# Altium schematic symbol library POWER_2.SchLib: 7 symbols
Pins are listed as number, name and electrical type; pins without a type are passive.

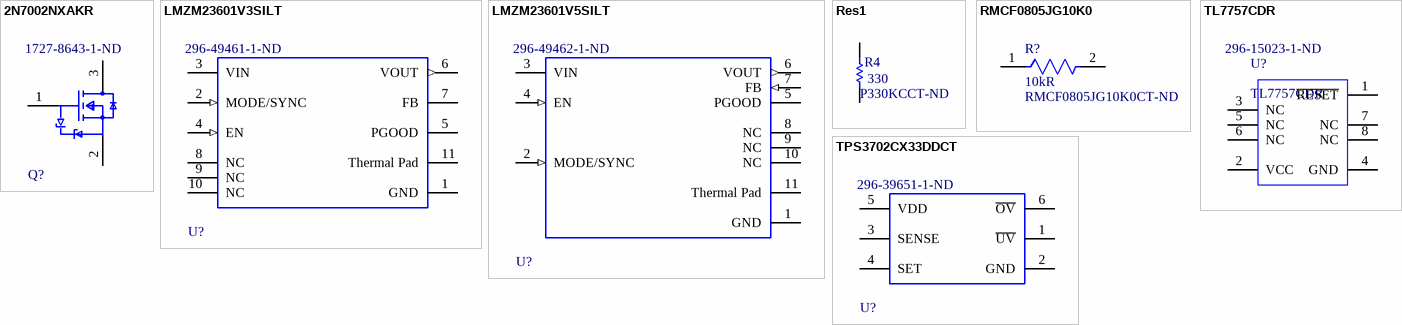
[diagram p0: symbols 2N7002NXAKR to TPS3702CX33DDCT]

## 2N7002NXAKR
designator Q?  Supplier Part Number 1: 1727-8643-1-ND  (hidden comment: *)
2N7002NXAK - 60 V, single N-channel Trench MOSFET; Manufacturer: Nexperia; Manufacturer Part Number: 2N7002NXAKR; Supplier 1: Digi-Key; RoHS: No; Stock 1: 74376; Pricing 1: 1=0.10000, 10=0.05600, 25=0.05360, 100=0.03030, 500=0.02380, 1000=0.01653 (USD)
footprint Nexperia_USA_Inc_SOT23_IPC_B
pins: 1 G, 2 S, 3 D

## LMZM23601V3SILT
designator U?  Supplier Part Number 1: 296-49461-1-ND  (hidden comment: *)
TEXAS INSTRUMENTS - LMZM23601V3SILT . - Convertidor DC/DC POL no Aislado, ITE, 1 Salida, 3 W, 3 V, 1 A, Fijo; Number of Outputs: 1; Min Input Voltage: 4V; Max Input Voltage: 36V; Voltage - Output 1: 3.3V; Max Output Current: 1A; Efficiency: 81%; Supplier 1: Digi-Key; Manufacturer: Texas Instruments; Manufacturer Part Number: LMZM23601V3SILT; RoHS: Yes; Category: Voltage Regulators - Switching; Stock 1: 689; Pricing 1: 1=6.54000, 10=5.87300, 25=5.55240, 100=4.56520 (USD); Mount: Surface Mount; Min Operating Temperature: -40°C; Max Operating Temperature: 125°C; Features: UVLO,OCP,SCP; Packaging: Cut Tape; RoHS Compliant: Yes; ComponentLink1URL: http://www.ti.com/lit/ds/symlink/lmzm23601.pdf?src-supplier=Digi-Key; ComponentLink1Description: http://www.ti.com/lit/ds/symlink/lmzm23601.pdf?src-supplier=Digi-Key; ComponentLink2URL: http://www.ti.com/lit/ds/symlink/lmzm23601.pdf?src-supplier=Farnell; ComponentLink2Description: http://www.ti.com/lit/ds/symlink/lmzm23601.pdf?src-supplier=Farnell
footprint Texas_Instruments_SIL0010A_MFG
pins: 1 GND (power), 2 MODE/SYNC (in), 3 VIN (power), 4 EN (in), 5 PGOOD (oc), 6 VOUT (out), 7 FB, 8 NC, 9 NC, 10 NC, 11 Thermal Pad (power)

## LMZM23601V5SILT
designator U?  Supplier Part Number 1: 296-49462-1-ND  (hidden comment: *)
TEXAS INSTRUMENTS - LMZM23601V5SILT - Non Isolated POL DC/DC Converter, 1 Output, 5 W, 5 V, 1 A, Fixed; Number of Outputs: 1; Min Input Voltage: 4V; Max Input Voltage: 36V; Voltage - Output 1: 5V; Max Output Current: 1A; Efficiency: 87%; Supplier 1: Digi-Key; Manufacturer: Texas Instruments; Manufacturer Part Number: LMZM23601V5SILT; RoHS: Yes; Category: Voltage Regulators - Switching; Stock 1: 2317; Pricing 1: 1=6.54000, 10=5.87300, 25=5.55240, 100=4.56520 (USD); Mount: Surface Mount; Min Operating Temperature: -40°C; Max Operating Temperature: 125°C; Features: UVLO,OCP,SCP; Packaging: Tape and Reel; ComponentLink1URL: http://www.ti.com/lit/ds/symlink/lmzm23601.pdf?src-supplier=Farnell; ComponentLink1Description: http://www.ti.com/lit/ds/symlink/lmzm23601.pdf?src-supplier=Farnell; ComponentLink2URL: http://www.ti.com/lit/ds/symlink/lmzm23601.pdf?src-supplier=Digi-Key; ComponentLink2Description: http://www.ti.com/lit/ds/symlink/lmzm23601.pdf?src-supplier=Digi-Key
footprint Texas_Instruments_SIL0010A_MFG
pins: 1 GND (power), 2 MODE/SYNC (in), 3 VIN (power), 4 EN (in), 5 PGOOD (oc), 6 VOUT (out), 7 FB (in), 8 NC, 9 NC, 10 NC, 11 Thermal Pad (power)

## Res1
designator R4  value 330  Supplier Part Number 1: P330KCCT-ND  (hidden comment: Res1)
SMD Chip Resistor, 0805 [2012 Metric], 330 kohm, ERJ6EN Series, 150 V, Thick Film, 125 mW; Manufacturer: Panasonic; Manufacturer Part Number: ERJ6ENF3303V; Resistance: 330kR; Power Rating: 125mW; Tolerance: 1%; Temperature Coefficient: 100ppm/°C; Voltage Rating: 150V; Published: 8-Jun-2000; LatestRevisionDate: 17-Jul-2002; LatestRevisionNote: Re-released for DXP Platform.; PackageReference: AXIAL-0.3; Publisher: Altium Limited; PackageDescription: Axial Device, Thru-Hole; 2 Leads; 0.3 in Pin Spacing; Supplier 1: Digi-Key; RoHS: Yes; Category: Chip SMD Resistors; Stock 1: 9622; Pricing 1: 1=0.10000, 10=0.07200, 100=0.02750, 1000=0.01210, 2500=0.01045 (USD); Mount: Surface Mount; Case/Package: 0805; Number of Pins: 2; Case Code (Metric): 2012; Case Code (Imperial): 0805; Contact Plating: Tin; Min Operating Temperature: -55°C; Max Operating Temperature: 155°C; Packaging: Tape and Reel; Resistor Type: Thick Film; Number of Terminations: 2; Max Power Dissipation: 125mW; Series: ERJ; Termination: SMD/SMT; Construction: Rectangular; Package Quantity: 1; Features: Automotive AEC-Q200; Resistance Tolerance: 1%; Technology: THICK FILM; Length: 2mm; Width: 0.049inch; Height: 0.6mm; Depth: 1.25mm; Radiation Hardening: No; RoHS Compliant: Yes; Military Standard: Not; REACH SVHC: No SVHC; ComponentLink1URL: https://datasheet.ciiva.com/11821/0900766b80f80784-11821637.pdf?src-supplier=RSComponents; ComponentLink1Description: https://datasheet.ciiva.com/11821/0900766b80f80784-11821637.pdf?src-supplier=RSComponents; ComponentLink2URL: https://datasheet.ciiva.com/9183/aoa0000ce2-9183029.pdf?src-supplier=Avnet; ComponentLink2Description: https://datasheet.ciiva.com/9183/aoa0000ce2-9183029.pdf?src-supplier=Avnet; ComponentLink3URL: https://datasheet.ciiva.com/24026/aoa0000ce2-24026247.pdf?src-supplier=Mouser; ComponentLink3Description: https://datasheet.ciiva.com/24026/aoa0000ce2-24026247.pdf?src-supplier=Mouser; ComponentLink4URL: https://datasheet.ciiva.com/46420/1678782-46420183.pdf?src-supplier=Element14; ComponentLink4Description: https://datasheet.ciiva.com/46420/1678782-46420183.pdf?src-supplier=Element14; ComponentLink5URL: https://datasheet.ciiva.com/7836/426256-7836824.pdf?src-supplier=Element14; ComponentLink5Description: https://datasheet.ciiva.com/7836/426256-7836824.pdf?src-supplier=Element14; ComponentLink6URL: https://datasheet.ciiva.com/17206/aoa0000ce2-17206265.pdf?src-supplier=Avnet+Europe; ComponentLink6Description: https://datasheet.ciiva.com/17206/aoa0000ce2-17206265.pdf?src-supplier=Avnet+Europe; ComponentLink7URL: https://datasheet.ciiva.com/16761/70260748-16761642.pdf?src-supplier=Allied+Electronics; ComponentLink7Description: https://datasheet.ciiva.com/16761/70260748-16761642.pdf?src-supplier=Allied+Electronics; ComponentLink8URL: https://datasheet.ciiva.com/7836/426256-7836539.pdf?src-supplier=Element14; ComponentLink8Description: https://datasheet.ciiva.com/7836/426256-7836539.pdf?src-supplier=Element14; ComponentLink9URL: https://datasheet.ciiva.com/5915/426256-5915341.pdf?src-supplier=Farnell; ComponentLink9Description: https://datasheet.ciiva.com/5915/426256-5915341.pdf?src-supplier=Farnell; ComponentLink10URL: https://datasheet.ciiva.com/16765/70260748-16765294.pdf?src-supplier=Allied+Electronics; ComponentLink10Description: https://datasheet.ciiva.com/16765/70260748-16765294.pdf?src-supplier=Allied+Electronics; ComponentLink11URL: https://datasheet.ciiva.com/22673/1678782-22673294.pdf?src-supplier=Element14; ComponentLink11Description: https://datasheet.ciiva.com/22673/1678782-22673294.pdf?src-supplier=Element14; ComponentLink12URL: https://datasheet.ciiva.com/22687/1678782-22687438.pdf?src-supplier=Element14; ComponentLink12Description: https://datasheet.ciiva.com/22687/1678782-22687438.pdf?src-supplier=Element14
simulation model RESISTOR (Resistor)
signal-integrity model Res
footprint 6-0805_M (Chip Resistor, Body 2.0x1.2mm, IPC Low Density)
pins: 1, 2

## RMCF0805JG10K0
designator R?  Resistance: 10kR  Supplier Part Number 1: RMCF0805JG10K0CT-ND  (hidden comment: *)
Res Thick Film 0805 10K Ohm 5% 1/8W ±200ppm/°C Molded SMD Paper T/R; Manufacturer: Stackpole Electronics; Manufacturer Part Number: RMCF0805JG10K0; Max Power Dissipation: 125mW; Supplier 1: Digi-Key; RoHS: Yes; Category: Chip SMD Resistors; Stock 1: 126198; Pricing 1: 1=0.10000, 10=0.01900, 100=0.00780, 1000=0.00350, 2500=0.00304, 5000=0.00251 (USD); Mount: Surface Mount; Case/Package: 0805; Case Code (Metric): 2012; Case Code (Imperial): 0805; Contact Plating: Tin,Matte; Min Operating Temperature: -55°C; Max Operating Temperature: 155°C; Packaging: Tape and Reel; Tolerance: 5%; Resistor Type: Thick Film; Number of Terminations: 2; Package Quantity: 10000; Temperature Coefficient: 200ppm/°C; Features: Automotive AEC-Q200; Series: RMCF; Length: 0.079inch; Width: 0.049inch; Height: 0.026inch; Radiation Hardening: No; RoHS Compliant: Yes; ComponentLink1URL: https://www.seielect.com/catalog/SEI-Packaging.pdf?src-supplier=Digi-Key; ComponentLink1Description: https://www.seielect.com/catalog/SEI-Packaging.pdf?src-supplier=Digi-Key; ComponentLink2URL: https://www.seielect.com/Catalog/SEI-RMCF_RMCP.pdf?src-supplier=Digi-Key; ComponentLink2Description: https://www.seielect.com/Catalog/SEI-RMCF_RMCP.pdf?src-supplier=Digi-Key; ComponentLink3URL: http://www.seielect.com/Catalog/SEI-RMCF_RMCP.pdf?src-supplier=Digi-Key; ComponentLink3Description: http://www.seielect.com/Catalog/SEI-RMCF_RMCP.pdf?src-supplier=Digi-Key; ComponentLink4URL: https://www.seielect.com/catalog/SEI-RMCF_RMCP.pdf?src-supplier=Avnet; ComponentLink4Description: https://www.seielect.com/catalog/SEI-RMCF_RMCP.pdf?src-supplier=Avnet; ComponentLink5URL: http://components.arrow.com/part/dataview/40965385S7746077N1174?src-supplier=Arrow+Electronics; ComponentLink5Description: http://components.arrow.com/part/dataview/40965385S7746077N1174?src-supplier=Arrow+Electronics
footprint Model Name (Footprint not found)
footprint 0805
pins: 1, 2

## TL7757CDR
designator U?  Supplier Part Number 1: 296-15023-1-ND
IC SUPPLY-VOLT SUPERVISOR 8-SOIC; Manufacturer: Texas Instruments; # of supplies monitored: 1; VCC(Max)(V): 7; Rating: Military; Iq(Typ)(uA): 1400; Threshold Voltage 1 (typ)(Typ)(V): 4.55; Reset Threshold Accuracy(%): 2.6; Output Driver Type / Reset Output: Active-low, Open-drain; SubFamily: Supervisor and Reset IC; Max Supply Voltage: 7V; Min Supply Voltage: 1V; Reset: Active Low; Reset Timeout: 5us; Threshold Voltage: 4.55V; Operating Supply Current: 1.4mA; Max Supply Current: 2mA; Watchdog Timer: No; Overvoltage Threshold: 4.67V; Min Reset Threshold Voltage: 4.43V; PackageVersion: revM, Jun-2011; ComponentLink1Description: Datasheet; DatasheetVersion: SLVS041I; PackageReference: D8; ComponentLink1URL: http://www.ti.com/general/docs/lit/getliterature.tsp?genericPartNumber=TL7757&fileType=pdf; Code_JEDEC: MS-012AA; VCC(Min)(V): 1; Mounting Technology: Surface Mount; PackageDescription: 8-Pin Plastic Small Outline Integrated Circuit, 4.9 x 3.9 mm, Pitch 1.27 mm Pitch; PartNumber: TL7757CDR; Supplier 1: Digi-Key; Manufacturer Part Number: TL7757CDR; RoHS: Yes; Category: Voltage Supervisors; Stock 1: 869; Pricing 1: 1=0.74000, 10=0.65400, 25=0.61440, 100=0.46580, 250=0.39644, 500=0.37662, 1000=0.28742 (USD); Case/Package: D; Number of Pins: 8; Min Operating Temperature: -40°C; Max Operating Temperature: 85°C; Packaging: Tape and Reel; Package Quantity: 2500; Number of Voltages Monitored: 1; Undervoltage Threshold: 4.55V; Quiescent Current: 1.4mA; Max Reset Threshold Voltage: 4.67V; Radiation Hardening: No; Lead Free: Lead Free; RoHS Compliant: Yes; ComponentLink2URL: https://datasheet.ciiva.com/26884/tl7757cdr-26884959.pdf?src-supplier=IIIC; ComponentLink2Description: https://datasheet.ciiva.com/26884/tl7757cdr-26884959.pdf?src-supplier=IIIC; ComponentLink3URL: https://datasheet.ciiva.com/1970/tl7757-1970771.pdf?src-supplier=Digi-Key; ComponentLink3Description: https://datasheet.ciiva.com/1970/tl7757-1970771.pdf?src-supplier=Digi-Key; ComponentLink4URL: https://datasheet.ciiva.com/1970/tl7757-1970772.pdf?src-supplier=Digi-Key; ComponentLink4Description: https://datasheet.ciiva.com/1970/tl7757-1970772.pdf?src-supplier=Digi-Key; ComponentLink5URL: https://datasheet.ciiva.com/1970/tl7757-1970773.pdf?src-supplier=Digi-Key; ComponentLink5Description: https://datasheet.ciiva.com/1970/tl7757-1970773.pdf?src-supplier=Digi-Key; ComponentLink6URL: https://datasheet.ciiva.com/15104/getdatasheetpartid-69516-15104861.pdf?src-supplier=Verical; ComponentLink6Description: https://datasheet.ciiva.com/15104/getdatasheetpartid-69516-15104861.pdf?src-supplier=Verical
footprint D8_N
footprint D8_L
footprint D8_M
footprint D8_L (SOIC, 8-Leads, Body 4.9x3.9mm, Pitch 1.27mm, IPC High Density)
pins: 1 ~{RESET} (oc), 2 VCC (power), 3 NC, 4 GND (power), 5 NC, 6 NC, 7 NC, 8 NC

## TPS3702CX33DDCT
designator U?  Supplier Part Number 1: 296-39651-1-ND  (hidden comment: *)
TEXAS INSTRUMENTS - TPS3702CX33DDCT - VOLTAGE SUPERVISOR, 3.3V, SOT-23-6; Number of Voltages Monitored: 1; Reset: Active Low; Min Supply Voltage: 2V; Max Supply Voltage: 18V; Accuracy: 0.25%; Operating Supply Current: 7uA; Overvoltage Threshold: 3.6V; Undervoltage Threshold: 3.17V; Quiescent Current: 6uA; Supplier 1: Digi-Key; Manufacturer: Texas Instruments; Manufacturer Part Number: TPS3702CX33DDCT; RoHS: Yes; Category: Voltage Supervisors; Stock 1: 6325; Pricing 1: 1=2.50000, 10=2.24700, 25=2.12000, 100=1.69600 (USD); Mount: Surface Mount; Case/Package: SOT-6; Number of Pins: 6; Weight: 0.001058oz; Min Operating Temperature: -40°C; Max Operating Temperature: 125°C; Packaging: Tape and Reel; Threshold Voltage: 3.3V; Number of Monitored Inputs: 1; Package Quantity: 250; Type: Voltage Detector; REACH SVHC: No SVHC; Lead Free: Lead Free; RoHS Compliant: Yes; ComponentLink1URL: http://www.ti.com/lit/ds/symlink/tps3702.pdf?src-supplier=Digi-Key; ComponentLink1Description: http://www.ti.com/lit/ds/symlink/tps3702.pdf?src-supplier=Digi-Key; ComponentLink2URL: http://www.ti.com/general/docs/lit/getliterature.tsp?genericPartNumber=TPS3702&&fileType=pdf&src-supplier=Element14; ComponentLink2Description: http://www.ti.com/general/docs/lit/getliterature.tsp?genericPartNumber=TPS3702&&fileType=pdf&src-supplier=Element14; ComponentLink3URL: http://www.ti.com/lit/gpn/tps3702?src-supplier=Mouser; ComponentLink3Description: http://www.ti.com/lit/gpn/tps3702?src-supplier=Mouser; ComponentLink4URL: http://www.ti.com/general/docs/lit/getliterature.tsp?genericPartNumber=TPS3702&&fileType=pdf&src-supplier=Farnell; ComponentLink4Description: http://www.ti.com/general/docs/lit/getliterature.tsp?genericPartNumber=TPS3702&&fileType=pdf&src-supplier=Farnell; ComponentLink5URL: http://www.ti.com/general/docs/lit/getliterature.tsp?genericPartNumber=TPS3702&amp;&amp;fileType=pdf&src-supplier=Farnell; ComponentLink5Description: http://www.ti.com/general/docs/lit/getliterature.tsp?genericPartNumber=TPS3702&amp;&amp;fileType=pdf&src-supplier=Farnell; ComponentLink6URL: http://www.ti.com/general/docs/lit/getliterature.tsp?genericPartNumber=TPS3702&&fileType=pdf&src-supplier=Avnet; ComponentLink6Description: http://www.ti.com/general/docs/lit/getliterature.tsp?genericPartNumber=TPS3702&&fileType=pdf&src-supplier=Avnet
footprint Texas_Instruments_DDC0006A_IPC_B
pins: 1 ~{UV} (oc), 2 GND (power), 3 SENSE, 4 SET, 5 VDD (power), 6 ~{OV} (oe)